# EAGLE library part CM4 (library CM4_SYMBOL)
Raspberry Pi Compute Module 4 by Amornthep Phunsin
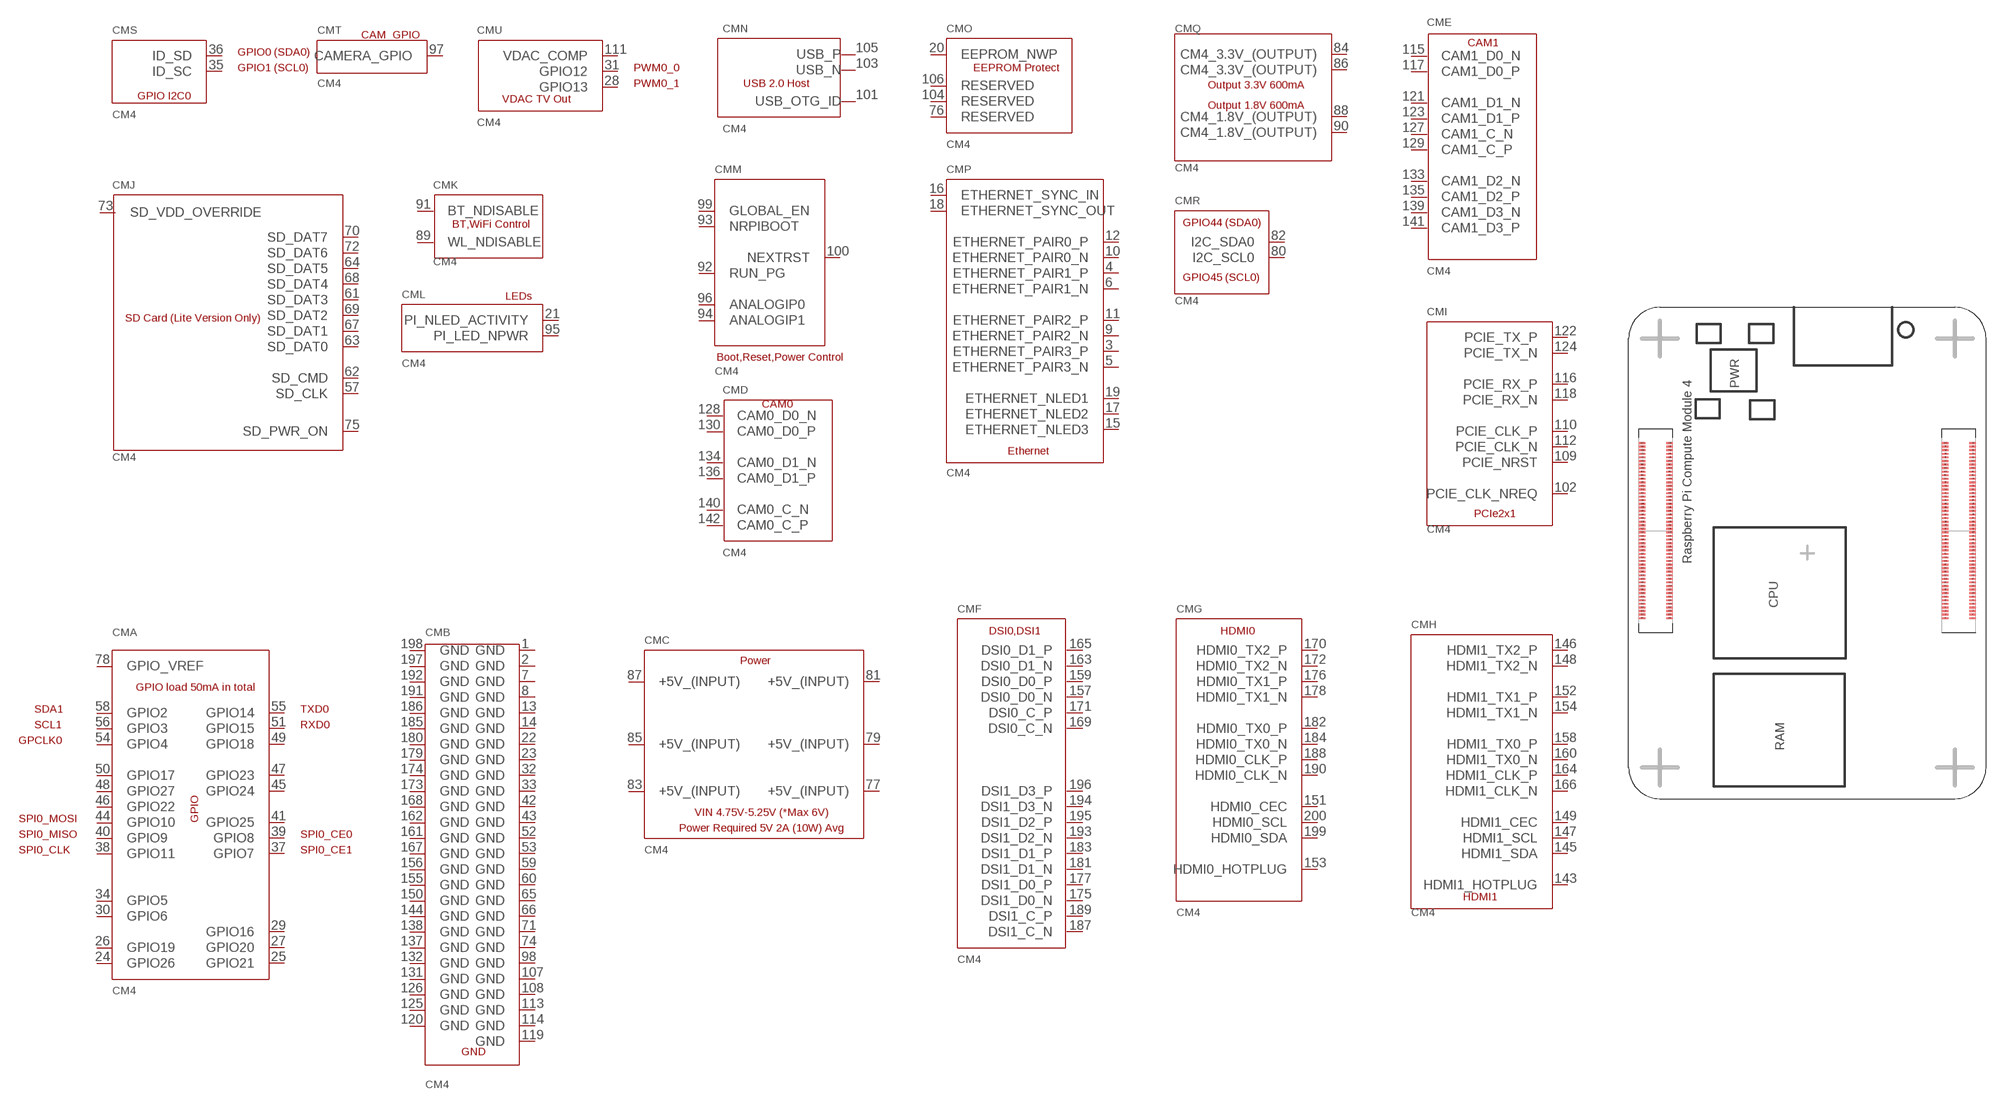
[diagram p0: symbol with the pads of CM4_FOOTPRINT; footprint CM4_FOOTPRINT]

Designator prefix CM; gates A=CM4_A B=CM4_B C=CM4_C D=CM4_D E=CM4_E F=CM4_F G=CM4_G H=CM4_H I=CM4_I J=CM4_J K=CM4_K L=CM4_L M=CM4_M N=CM4_N O=CM4_O P=CM4_P Q=CM4_Q R=CM4_R S=CM4_S T=CM4_T U=CM4_U

## CM4  [CM4_FOOTPRINT]
1  B:GND  pwr
2  B:GND  pwr
3  P:ETHERNET_PAIR3_P  pas
4  P:ETHERNET_PAIR1_P  pas
5  P:ETHERNET_PAIR3_N  pas
6  P:ETHERNET_PAIR1_N  pas
7  B:GND  pwr
8  B:GND  pwr
9  P:ETHERNET_PAIR2_N  pas
10  P:ETHERNET_PAIR0_N  pas
11  P:ETHERNET_PAIR2_P  pas
12  P:ETHERNET_PAIR0_P  pas
13  B:GND  pwr
14  B:GND  pwr
15  P:ETHERNET_NLED3  out
16  P:ETHERNET_SYNC_IN  in
17  P:ETHERNET_NLED2  out
18  P:ETHERNET_SYNC_OUT  in
19  P:ETHERNET_NLED1  out
20  O:EEPROM_NWP  pas
21  L:PI_NLED_ACTIVITY  oc
22  B:GND  pwr
23  B:GND  pwr
24  A:GPIO26  pas
25  A:GPIO21  pas
26  A:GPIO19  pas
27  A:GPIO20  pas
28  U:GPIO13  pas
29  A:GPIO16  pas
30  A:GPIO6  pas
31  U:GPIO12  pas
32  B:GND  pwr
33  B:GND  pwr
34  A:GPIO5  pas
35  S:ID_SC  pas
36  S:ID_SD  pas
37  A:GPIO7  pas
38  A:GPIO11  pas
39  A:GPIO8  pas
40  A:GPIO9  pas
41  A:GPIO25  pas
42  B:GND  pwr
43  B:GND  pwr
44  A:GPIO10  pas
45  A:GPIO24  pas
46  A:GPIO22  pas
47  A:GPIO23  pas
48  A:GPIO27  pas
49  A:GPIO18  pas
50  A:GPIO17  pas
51  A:GPIO15  pas
52  B:GND  pwr
53  B:GND  pwr
54  A:GPIO4  pas
55  A:GPIO14  pas
56  A:GPIO3  pas
57  J:SD_CLK  pas
58  A:GPIO2  pas
59  B:GND  pwr
60  B:GND  pwr
61  J:SD_DAT3  pas
62  J:SD_CMD  pas
63  J:SD_DAT0  pas
64  J:SD_DAT5  pas
65  B:GND  pwr
66  B:GND  pwr
67  J:SD_DAT1  pas
68  J:SD_DAT4  pas
69  J:SD_DAT2  pas
70  J:SD_DAT7  pas
71  B:GND  pwr
72  J:SD_DAT6  pas
73  J:SD_VDD_OVERRIDE  in
74  B:GND  pwr
75  J:SD_PWR_ON  out
76  O:RESERVED  pas
77  C:+5V_(INPUT)  pwr
78  A:GPIO_VREF  pwr
79  C:+5V_(INPUT)  pwr
80  R:I2C_SCL0  pas
81  C:+5V_(INPUT)  pwr
82  R:I2C_SDA0  pas
83  C:+5V_(INPUT)  pwr
84  Q:CM4_3.3V_(OUTPUT)  pwr
85  C:+5V_(INPUT)  pwr
86  Q:CM4_3.3V_(OUTPUT)  pwr
87  C:+5V_(INPUT)  pwr
88  Q:CM4_1.8V_(OUTPUT)  pwr
89  K:WL_NDISABLE  in
90  Q:CM4_1.8V_(OUTPUT)  pwr
91  K:BT_NDISABLE  in
92  M:RUN_PG  pas
93  M:NRPIBOOT  in
94  M:ANALOGIP1  pas
95  L:PI_LED_NPWR  out
96  M:ANALOGIP0  pas
97  T:CAMERA_GPIO  pas
98  B:GND  pwr
99  M:GLOBAL_EN  in
100  M:NEXTRST  out
101  N:USB_OTG_ID  in
102  I:PCIE_CLK_NREQ  in
103  N:USB_N  pas
104  O:RESERVED  pas
105  N:USB_P  pas
106  O:RESERVED  pas
107  B:GND  pwr
108  B:GND  pwr
109  I:PCIE_NRST  out
110  I:PCIE_CLK_P  out
111  U:VDAC_COMP  pas
112  I:PCIE_CLK_N  out
113  B:GND  pwr
114  B:GND  pwr
115  E:CAM1_D0_N  in
116  I:PCIE_RX_P  in
117  E:CAM1_D0_P  in
118  I:PCIE_RX_N  in
119  B:GND  pwr
120  B:GND  pwr
121  E:CAM1_D1_N  in
122  I:PCIE_TX_P  out
123  E:CAM1_D1_P  in
124  I:PCIE_TX_N  out
125  B:GND  pwr
126  B:GND  pwr
127  E:CAM1_C_N  in
128  D:CAM0_D0_N  in
129  E:CAM1_C_P  in
130  D:CAM0_D0_P  in
131  B:GND  pwr
132  B:GND  pwr
133  E:CAM1_D2_N  in
134  D:CAM0_D1_N  in
135  E:CAM1_D2_P  in
136  D:CAM0_D1_P  in
137  B:GND  pwr
138  B:GND  pwr
139  E:CAM1_D3_N  in
140  D:CAM0_C_N  in
141  E:CAM1_D3_P  in
142  D:CAM0_C_P  in
143  H:HDMI1_HOTPLUG  in
144  B:GND  pwr
145  H:HDMI1_SDA
146  H:HDMI1_TX2_P  out
147  H:HDMI1_SCL  oc
148  H:HDMI1_TX2_N  out
149  H:HDMI1_CEC  oc
150  B:GND  pwr
151  G:HDMI0_CEC  oc
152  H:HDMI1_TX1_P  out
153  G:HDMI0_HOTPLUG  in
154  H:HDMI1_TX1_N  out
155  B:GND  pwr
156  B:GND  pwr
157  F:DSI0_D0_N  out
158  H:HDMI1_TX0_P  out
159  F:DSI0_D0_P  out
160  H:HDMI1_TX0_N  out
161  B:GND  pwr
162  B:GND  pwr
163  F:DSI0_D1_N  out
164  H:HDMI1_CLK_P  out
165  F:DSI0_D1_P  out
166  H:HDMI1_CLK_N  out
167  B:GND  pwr
168  B:GND  pwr
169  F:DSI0_C_N  out
170  G:HDMI0_TX2_P  out
171  F:DSI0_C_P  out
172  G:HDMI0_TX2_N  out
173  B:GND  pwr
174  B:GND  pwr
175  F:DSI1_D0_N  out
176  G:HDMI0_TX1_P  out
177  F:DSI1_D0_P  out
178  G:HDMI0_TX1_N  out
179  B:GND  pwr
180  B:GND  pwr
181  F:DSI1_D1_N  out
182  G:HDMI0_TX0_P  out
183  F:DSI1_D1_P  out
184  G:HDMI0_TX0_N  out
185  B:GND  pwr
186  B:GND  pwr
187  F:DSI1_C_N  out
188  G:HDMI0_CLK_P  out
189  F:DSI1_C_P  out
190  G:HDMI0_CLK_N  out
191  B:GND  pwr
192  B:GND  pwr
193  F:DSI1_D2_N  out
194  F:DSI1_D3_N  out
195  F:DSI1_D2_P  out
196  F:DSI1_D3_P  out
197  B:GND  pwr
198  B:GND  pwr
199  G:HDMI0_SDA
200  G:HDMI0_SCL  oc

## Footprint CM4_FOOTPRINT (pad centres in mm)
smd 0.7 x 0.2: 1 18.5,-7.3; 2 15.42,-7.3; 3 18.5,-6.9; 4 15.42,-6.9; 5 18.5,-6.5; 6 15.42,-6.5; 7 18.5,-6.1; 8 15.42,-6.1; 9 18.5,-5.7; 10 15.42,-5.7; 11 18.5,-5.3; 12 15.42,-5.3; 13 18.5,-4.9; 14 15.42,-4.9; 15 18.5,-4.5; 16 15.42,-4.5; 17 18.5,-4.1; 18 15.42,-4.1; 19 18.5,-3.7; 20 15.42,-3.7; 21 18.5,-3.3; 22 15.42,-3.3; 23 18.5,-2.9; 24 15.42,-2.9; 25 18.5,-2.5; 26 15.42,-2.5; 27 18.5,-2.1; 28 15.42,-2.1; 29 18.5,-1.7; 30 15.42,-1.7; 31 18.5,-1.3; 32 15.42,-1.3; 33 18.5,-0.9; 34 15.42,-0.9; 35 18.5,-0.5; 36 15.42,-0.5; 37 18.5,-0.1; 38 15.42,-0.1; 39 18.5,0.3; 40 15.42,0.3; 41 18.5,0.7; 42 15.42,0.7; 43 18.5,1.1; 44 15.42,1.1; 45 18.5,1.5; 46 15.42,1.5; 47 18.5,1.9; 48 15.42,1.9; 49 18.5,2.3; 50 15.42,2.3; 51 18.5,2.7; 52 15.42,2.7; 53 18.5,3.1; 54 15.42,3.1; 55 18.5,3.5; 56 15.42,3.5; 57 18.5,3.9; 58 15.42,3.9; 59 18.5,4.3; 60 15.42,4.3; 61 18.5,4.7; 62 15.42,4.7; 63 18.5,5.1; 64 15.42,5.1; 65 18.5,5.5; 66 15.42,5.5; 67 18.5,5.9; 68 15.42,5.9; 69 18.5,6.3; 70 15.42,6.3; 71 18.5,6.7; 72 15.42,6.7; 73 18.5,7.1; 74 15.42,7.1; 75 18.5,7.5; 76 15.42,7.5; 77 18.5,7.9; 78 15.42,7.9; 79 18.5,8.3; 80 15.42,8.3; 81 18.5,8.7; 82 15.42,8.7; 83 18.5,9.1; 84 15.42,9.1; 85 18.5,9.5; 86 15.42,9.5; 87 18.5,9.9; 88 15.42,9.9; 89 18.5,10.3; 90 15.42,10.3; 91 18.5,10.7; 92 15.42,10.7; 93 18.5,11.1; 94 15.42,11.1; 95 18.5,11.5; 96 15.42,11.5; 97 18.5,11.9; 98 15.42,11.9; 99 18.5,12.3; 100 15.42,12.3; 101 -15.42,-7.3; 102 -18.5,-7.3; 103 -15.42,-6.9; 104 -18.5,-6.9; 105 -15.42,-6.5; 106 -18.5,-6.5; 107 -15.42,-6.1; 108 -18.5,-6.1; 109 -15.42,-5.7; 110 -18.5,-5.7; 111 -15.42,-5.3; 112 -18.5,-5.3; 113 -15.42,-4.9; 114 -18.5,-4.9; 115 -15.42,-4.5; 116 -18.5,-4.5; 117 -15.42,-4.1; 118 -18.5,-4.1; 119 -15.42,-3.7; 120 -18.5,-3.7; 121 -15.42,-3.3; 122 -18.5,-3.3; 123 -15.42,-2.9; 124 -18.5,-2.9; 125 -15.42,-2.5; 126 -18.5,-2.5; 127 -15.42,-2.1; 128 -18.5,-2.1; 129 -15.42,-1.7; 130 -18.5,-1.7; 131 -15.42,-1.3; 132 -18.5,-1.3; 133 -15.42,-0.9; 134 -18.5,-0.9; 135 -15.42,-0.5; 136 -18.5,-0.5; 137 -15.42,-0.1; 138 -18.5,-0.1; 139 -15.42,0.3; 140 -18.5,0.3; 141 -15.42,0.7; 142 -18.5,0.7; 143 -15.42,1.1; 144 -18.5,1.1; 145 -15.42,1.5; 146 -18.5,1.5; 147 -15.42,1.9; 148 -18.5,1.9; 149 -15.42,2.3; 150 -18.5,2.3; 151 -15.42,2.7; 152 -18.5,2.7; 153 -15.42,3.1; 154 -18.5,3.1; 155 -15.42,3.5; 156 -18.5,3.5; 157 -15.42,3.9; 158 -18.5,3.9; 159 -15.42,4.3; 160 -18.5,4.3; 161 -15.42,4.7; 162 -18.5,4.7; 163 -15.42,5.1; 164 -18.5,5.1; 165 -15.42,5.5; 166 -18.5,5.5; 167 -15.42,5.9; 168 -18.5,5.9; 169 -15.42,6.3; 170 -18.5,6.3; 171 -15.42,6.7; 172 -18.5,6.7; 173 -15.42,7.1; 174 -18.5,7.1; 175 -15.42,7.5; 176 -18.5,7.5; 177 -15.42,7.9; 178 -18.5,7.9; 179 -15.42,8.3; 180 -18.5,8.3; 181 -15.42,8.7; 182 -18.5,8.7; 183 -15.42,9.1; 184 -18.5,9.1; 185 -15.42,9.5; 186 -18.5,9.5; 187 -15.42,9.9; 188 -18.5,9.9; 189 -15.42,10.3; 190 -18.5,10.3; 191 -15.42,10.7; 192 -18.5,10.7; 193 -15.42,11.1; 194 -18.5,11.1; 195 -15.42,11.5; 196 -18.5,11.5; 197 -15.42,11.9; 198 -18.5,11.9; 199 -15.42,12.3; 200 -18.5,12.3